# Altium footprint library MyLib.PcbLib: 92 footprints (part 4 of 6)
Each footprint in its own frame and in the unit in brackets; x right, y up, seen from the top. Pads: shape width x height; smd on the part's side, far side on the other; paste and mask are expansions set on the pad; w line width, h text height; cw(c..) or ccw(c..) is an arc to the next point about the centre after c.
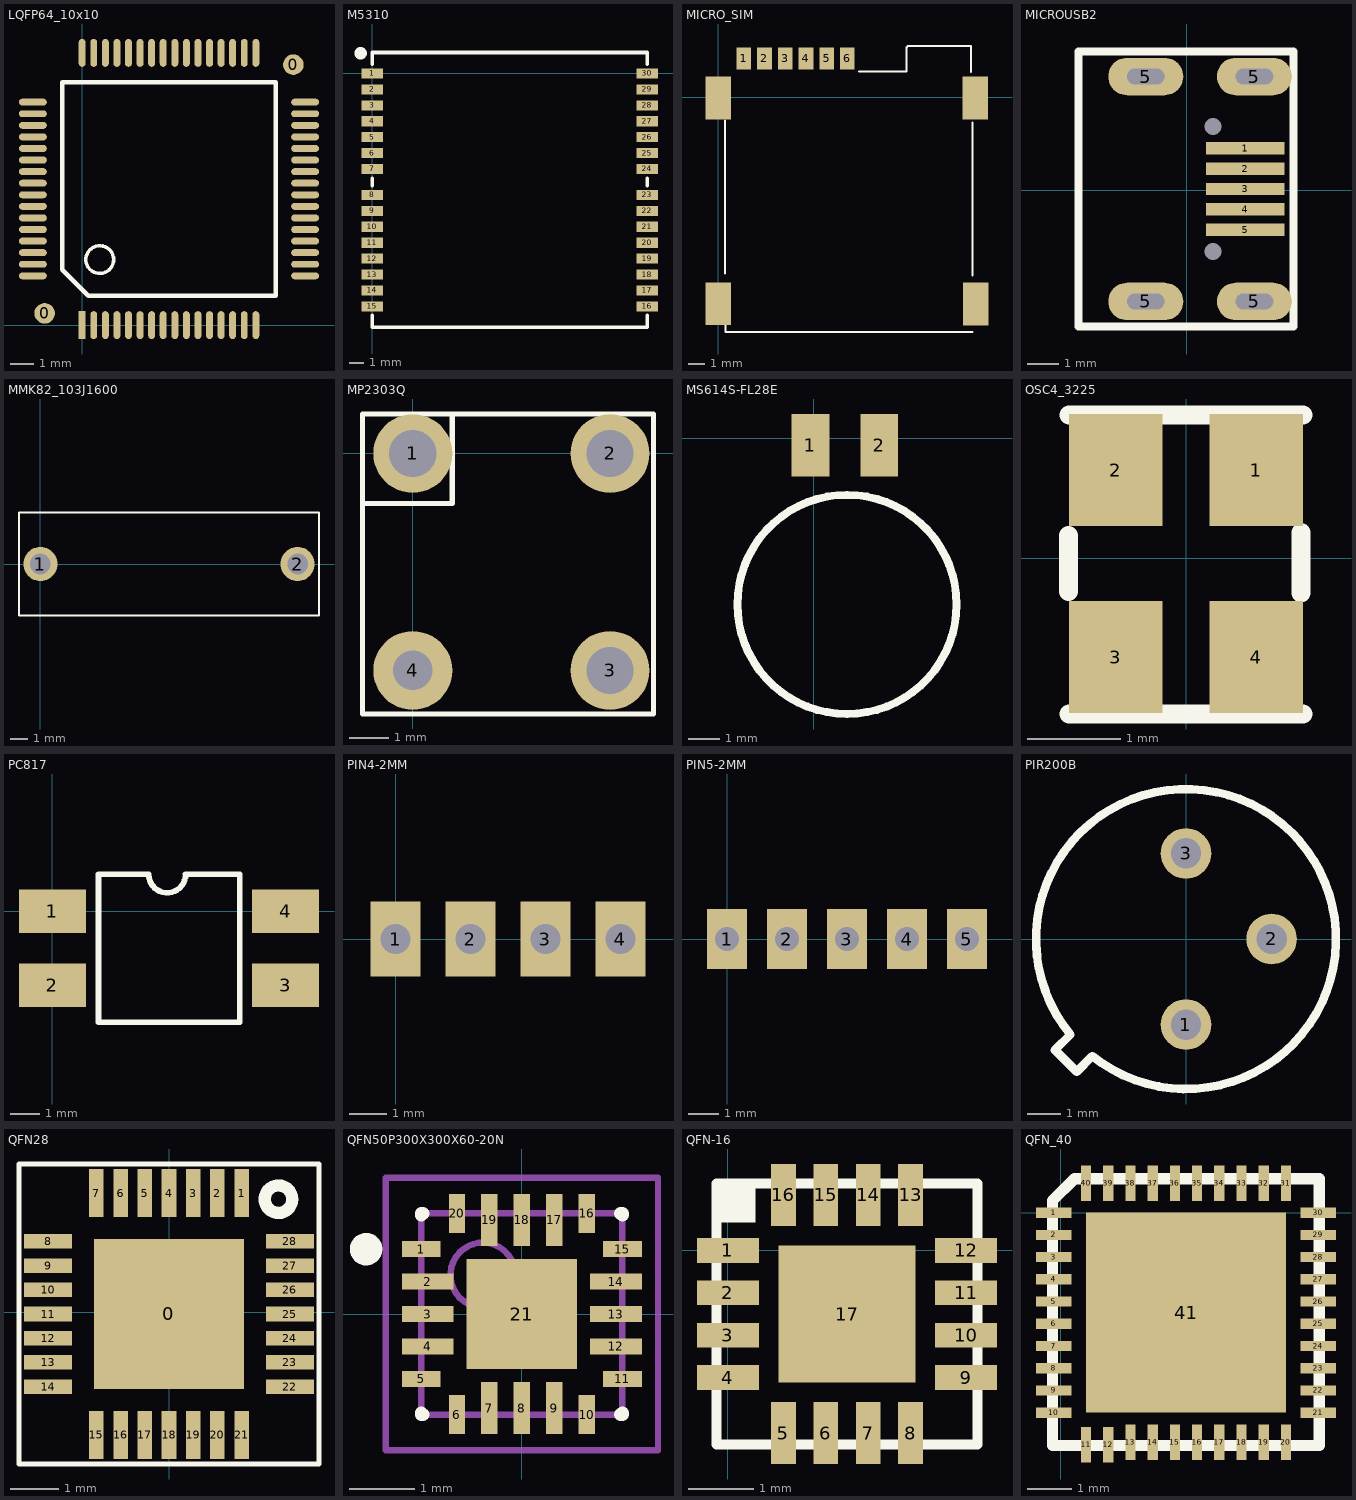
[diagram p3: the footprints below, top view; thin cyan lines are the x and y axes]

## LQFP64_10x10 [mm]
pads (66):
  round 0.889 smd: 0(-1.619,0.508) 0(9.119,11.246)
  rect 0.3x1.2 smd: 1(0,0)
  oval 0.3x1.2 smd: 2(0.5,0) 3(1,0) 4(1.5,0) 5(2,0) 6(2.5,0) 7(3,0) 8(3.5,0) 9(4,0) 10(4.5,0) 11(5,0) 12(5.5,0) 13(6,0) 14(6.5,0) 15(7,0) 16(7.5,0) 33(7.5,11.754) 34(7,11.754) 35(6.5,11.754) 36(6,11.754) 37(5.5,11.754) 38(5,11.754) 39(4.5,11.754) 40(4,11.754) 41(3.5,11.754) 42(3,11.754) 43(2.5,11.754) 44(2,11.754) 45(1.5,11.754) 46(1,11.754) 47(0.5,11.754) 48(0,11.754)
  oval 1.2x0.3 smd: 17(9.627,2.127) 18(9.627,2.627) 19(9.627,3.127) 20(9.627,3.627) 21(9.627,4.127) 22(9.627,4.627) 23(9.627,5.127) 24(9.627,5.627) 25(9.627,6.127) 26(9.627,6.627) 27(9.627,7.127) 28(9.627,7.627) 29(9.627,8.127) 30(9.627,8.627) 31(9.627,9.127) 32(9.627,9.627) 49(-2.127,9.627) 50(-2.127,9.127) 51(-2.127,8.627) 52(-2.127,8.127) 53(-2.127,7.627) 54(-2.127,7.127) 55(-2.127,6.627) 56(-2.127,6.127) 57(-2.127,5.627) 58(-2.127,5.127) 59(-2.127,4.627) 60(-2.127,4.127) 61(-2.127,3.627) 62(-2.127,3.127) 63(-2.127,2.627) 64(-2.127,2.127)
Top Overlay:
  circle w0.152: c0.762,2.829 r0.6
  lines w0.2: -0.865,2.397 0.27,1.262 8.365,1.262 8.365,10.492 -0.865,10.492 -0.865,2.397

## M5310 [mm]
height 1.3
pads (30):
  rect 1.5x0.7 smd: 1(0,0) 2(0,-1.1) 3(0,-2.2) 4(0,-3.3) 5(0,-4.4) 6(0,-5.5) 7(0,-6.6) 8(0,-8.4) 9(0,-9.5) 10(0,-10.6) 11(0,-11.7) 12(0,-12.8) 13(0,-13.9) 14(0,-15) 15(0,-16.1) 16(19,-16.1) 17(19,-15) 18(19,-13.9) 19(19,-12.8) 20(19,-11.7) 21(19,-10.6) 22(19,-9.5) 23(19,-8.4) 24(19,-6.6) 25(19,-5.5) 26(19,-4.4) 27(19,-3.3) 28(19,-2.2) 29(19,-1.1) 30(19,0)
Top Overlay:
  circle w0.5: c-0.815,1.397 r0.18
  lines w0.254: 0,-16.735 0,-17.55 19,-17.55 19,-16.735 ; 0,-7.747 0,-7.239 ; 0,0.635 0,1.45 19,1.45 19,0.635 ; 19,-7.747 19,-7.239

## MICRO_SIM [mm]
height 1.3
pads (10):
  rect 0.9x1.35 smd: 1(1.56,2.371) 2(2.83,2.371) 3(4.1,2.371) 4(5.37,2.371) 5(6.64,2.371) 6(7.91,2.371)
  rect 1.56x2.61 smd: ""(0,-12.652) ""(0,-0.054) ""(15.748,-0.054) ""(15.773,-12.678)
Top Overlay:
  lines w0.127: 0.406,-10.798 0.406,-1.426 ; 0.432,-13.999 0.432,-14.38 15.57,-14.38 ; 8.636,1.572 11.532,1.572 11.532,3.045 11.608,3.121 15.494,3.121 15.494,1.546 ; 15.57,-10.925 15.57,-1.553

## MICROUSB2 [mm]
pads (11):
  rect 2.5x0.4 smd: 1(1.867,1.344) 2(1.867,0.694) 3(1.867,0.044) 4(1.867,-0.606) 5(1.867,-1.256)
  oval 2.4x1.2 hole 0.5 slot 1.2 at 0 deg: 5(-1.316,-3.556) 5(-1.316,3.644) 5(2.159,-3.556) 5(2.159,3.644)
  round 0.5 hole 0.55: ""(0.834,-1.956) ""(0.834,2.044)
Top Overlay:
  lines w0.254: -3.466,4.444 -3.466,-4.356 3.409,-4.356 3.409,4.444 -3.441,4.444

## MMK82_103J1600 [mm]
pads (2):
  round 2 hole 1.2: 1(0,0) 2(15,0)
Top Overlay:
  lines w0.127: -1.25,-3 16.25,-3 16.25,3 -1.25,3 -1.25,0 -1.25,-3

## MP2303Q [mm] "信号耦合变压器"
height 20
pads (4):
  round 2 hole 1.2: 1(0,0) 2(5,0) 3(5,-5.5)
  round 2 hole 1: 4(0,-5.5)
Top Overlay:
  lines w0.127: -1.27,-1.27 1,-1.27 1,1 ; -1.27,-6.604 -1.27,1 6.096,1 6.096,-6.604 -1.27,-6.604

## MS614S-FL28E [mm]
pads (2):
  rect 1.2x2 smd: 1(-0.1,-0.229) 2(2.1,-0.229)
Top Overlay:
  circle w0.254: c1.067,-5.309 r3.5

## OSC4_3225 [mm]
pads (4):
  rect 1x1.2 smd: 1(0.745,0.942) 2(-0.755,0.942) 3(-0.755,-1.058) 4(0.745,-1.058)
Top Overlay:
  lines w0.203: -1.263,-0.358 -1.263,0.242 ; -1.255,-1.668 1.245,-1.668 ; -1.255,1.533 1.245,1.533 ; 1.226,-0.372 1.226,0.272

## PC817 [mm]
pads (4):
  rect 2.3x1.5 smd: 1(0,0) 2(0,-2.54) 3(8,-2.54) 4(8,0)
Top Overlay:
  lines w0.2: 3.251,1.27 1.585,1.27 1.585,-3.81 6.426,-3.81 6.426,1.27 4.597,1.27 ; 3.302,1.27 ccw(c3.937,1.27) 4.572,1.27

## PIN4-2MM [mil]
pads (4):
  rect 53x78.74 hole 32: 1(0,0)
  rect 52x78.74 hole 32: 2(78.74,0) 3(157.48,0) 4(236.22,0)

## PIN5-2MM [mil]
pads (5):
  rect 53x78.74 hole 32: 1(0,0) 5(314.96,0)
  rect 52x78.74 hole 32: 2(78.74,0) 3(157.48,0) 4(236.22,0)

## PIR200B [mm]
pads (3):
  round 1.5 hole 0.9: 1(0,-2.54) 2(2.541,0.001) 3(0,2.54)
Top Overlay:
  lines w0.254: -3.899,-3.302 -3.877,-3.302 -3.242,-3.937 -2.78,-3.475 ccw(c0,0) -3.431,-2.834 -3.899,-3.302
Bottom Overlay:
  lines w0.254: -3.877,-3.302 -3.899,-3.302 ; -3.264,-3.937 -3.899,-3.302 ; -3.242,-3.937 -2.78,-3.475 ccw(c0,0) -3.431,-2.834 -3.899,-3.302

## QFN28 [mm]
pads (29):
  rect 3.1x3.1 smd: 0(-0.001,-0.039)
  rect 0.3x1 smd: 1(1.499,2.461) 2(0.999,2.461) 3(0.499,2.461) 4(-0.001,2.461) 5(-0.501,2.461) 6(-1.001,2.461) 7(-1.501,2.461) 15(-1.501,-2.539) 16(-1.001,-2.539) 17(-0.501,-2.539) 18(-0.001,-2.539) 19(0.499,-2.539) 20(0.999,-2.539) 21(1.499,-2.539)
  rect 1x0.3 smd: 8(-2.501,1.461) 9(-2.501,0.961) 10(-2.501,0.461) 11(-2.501,-0.039) 12(-2.501,-0.539) 13(-2.501,-1.039) 14(-2.501,-1.539) 22(2.499,-1.539) 23(2.499,-1.039) 24(2.499,-0.539) 25(2.499,-0.039) 26(2.499,0.461) 27(2.499,0.961) 28(2.499,1.461)
Top Overlay:
  circle w0.254: c2.261,2.334 r0.284
  lines w0.1: -3.101,-3.139 3.099,-3.139 3.099,3.061 -3.101,3.061 -3.101,-3.139

## QFN50P300X300X60-20N [mm] "QFN, 20-Leads, Body 3.1x3.1mm (max), Pitch 0.50mm, IPC Medium Density"
height 0.6
pads (21):
  rect 0.6x0.25 smd: 1(-1.55,1) 5(-1.55,-1) 11(1.55,-1) 15(1.55,1)
  rect 0.8x0.25 smd: 2(-1.45,0.5) 3(-1.45,0) 4(-1.45,-0.5) 12(1.45,-0.5) 13(1.45,0) 14(1.45,0.5)
  rect 0.25x0.6 smd: 6(-1,-1.55) 10(1,-1.55) 16(1,1.55) 20(-1,1.55)
  rect 0.25x0.8 smd: 7(-0.5,-1.45) 8(0,-1.45) 9(0.5,-1.45) 17(0.5,1.45) 18(0,1.45) 19(-0.5,1.45)
  rect 1.7x1.7 smd: 21(0,0)
Top Overlay:
  circle w0.25: c-2.4,1 r0.125
  lines w0.2: -1.55,-1.525 -1.55,-1.55 -1.525,-1.55 ; -1.55,1.525 -1.55,1.55 -1.525,1.55 ; 1.525,-1.55 1.55,-1.55 1.55,-1.525 ; 1.525,1.55 1.55,1.55 1.55,1.525
Mechanical 13:
  circle w0.1: c-0.6,0.6 r0.5
  lines w0.1: -1.55,-1.55 -1.55,1.55 1.55,1.55 1.55,-1.55 -1.55,-1.55
Mechanical 15:
  lines w0.1: -0.5,0 0.5,0 ; 0,-0.5 0,0.5 ; -2.1,-2.1 -2.1,2.1 2.1,2.1 2.1,-2.1 -2.1,-2.1
3D body: height 0.6, standoff 0.05, extent -1.55,-1.55 1.55,1.55

## QFN-16 [mm]
height 1.3
pads (17):
  rect 0.95x0.38 smd: 1(0,0) 2(0,-0.65) 3(0,-1.3) 4(0,-1.95) 9(3.65,-1.95) 10(3.65,-1.3) 11(3.65,-0.65) 12(3.65,0)
  rect 0.38x0.95 smd: 5(0.85,-2.8) 6(1.5,-2.8) 7(2.15,-2.8) 8(2.8,-2.8) 13(2.8,0.85) 14(2.15,0.85) 15(1.5,0.85) 16(0.85,0.85)
  rect 2.1x2.1 smd: 17(1.825,-0.975)
Top Overlay:
  rectangle: -0.175,0.425 0.425,1.025
  lines w0.152: -0.175,-2.975 3.825,-2.975 3.825,1.025 -0.175,1.025 -0.175,-2.975

## QFN_40 [mm]
height 1.3
pads (41):
  rect 0.8x0.23 smd: 1(-0.16,0) 2(-0.16,-0.5) 3(-0.16,-1) 4(-0.16,-1.5) 5(-0.16,-2) 6(-0.16,-2.5) 7(-0.16,-3) 8(-0.16,-3.5) 9(-0.16,-4) 10(-0.16,-4.5) 21(5.79,-4.5) 22(5.79,-4) 23(5.79,-3.5) 24(5.79,-3) 25(5.79,-2.5) 26(5.79,-2) 27(5.79,-1.5) 28(5.79,-1) 29(5.79,-0.5) 30(5.79,0)
  rect 0.23x0.8 smd: 11(0.565,-5.225) 12(1.065,-5.225) 13(1.565,-5.165) 14(2.065,-5.165) 15(2.565,-5.165) 16(3.065,-5.165) 17(3.565,-5.165) 18(4.065,-5.165) 19(4.565,-5.165) 20(5.065,-5.165) 31(5.065,0.665) 32(4.565,0.665) 33(4.065,0.665) 34(3.565,0.665) 35(3.065,0.665) 36(2.565,0.665) 37(2.065,0.665) 38(1.565,0.665) 39(1.065,0.665) 40(0.565,0.665)
  rect 4.5x4.5 smd: 41(2.815,-2.25)
Top Overlay:
  lines w0.254: -0.187,0.254 -0.187,-5.238 5.813,-5.238 5.813,0.762 0.305,0.762 -0.187,0.27